# Altium schematic symbol library Components - 30.01.24 - 15.13.SchLib: 1 symbol
Pins are listed as number, name and electrical type; pins without a type are passive.

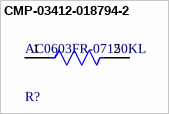
[diagram p0: symbol CMP-03412-018794-2]

## CMP-03412-018794-2
designator R?, comment AC0603FR-07150KL
RES 150KΩ 1.00% 0.1W 0603; Power Rating: 100mW; Resistance: 150kR; Voltage Rating: 50V; Tolerance: 1%; Temperature Coefficient: 100ppm/°C; Ratings: AEC-Q200; Resistor Type: Thick Film; Series: AC; Termination: SMD/SMT; Width: 0.8mm; Weight: 7.1E-05oz; Height: 0.45mm; Min Operating Temperature: -55°C; Number of Terminations: 2; RoHS Compliant: Yes; Length: 1.6mm; Case Code (Metric): 1608; Features: Moisture Resistant; Max Power Dissipation: 100mW; Case Code (Imperial): 0603; Case/Package: 0603; Max Operating Temperature: 155°C; Packaging: Tape and Reel
footprint FP-AC0603-IPC_C
footprint FP-AC0603-IPC_B
footprint FP-AC0603-MFG
footprint FP-AC0603-IPC_A
pins: 1, 2